# EAGLE library part 15EDG_C-3.5-08P (library doz)
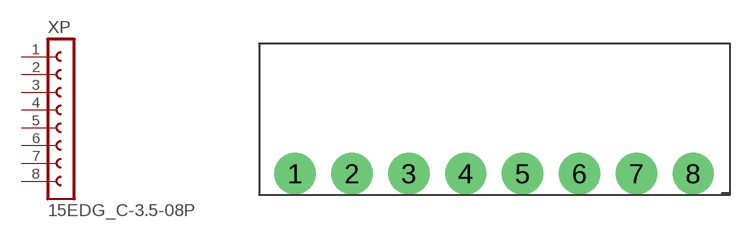
[diagram p9: symbol with the pads of 15EDGRC-3.5-08P; footprint 15EDGRC-3.5-08P]

Designator prefix XP

## 15EDG_C-3.5-08P90DEGREE  [15EDGRC-3.5-08P]
1  1  pas
2  2  pas
3  3  pas
4  4  pas
5  5  pas
6  6  pas
7  7  pas
8  8  pas

## Footprint 15EDGRC-3.5-08P (pad centres in mm)
drill 1.4 pad 2.54: 1 -12.27,-1.11; 2 -8.77,-1.11; 3 -5.27,-1.11; 4 -1.77,-1.11; 5 1.73,-1.11; 6 5.23,-1.11; 7 8.73,-1.11; 8 12.23,-1.11